# Altium footprint library SparkFun-Connectors.PCBLIB: 386 footprints (part 22 of 25)
Each footprint in its own frame and in the unit in brackets; x right, y up, seen from the top. Pads: shape width x height; smd on the part's side, far side on the other; paste and mask are expansions set on the pad; w line width, h text height; cw(c..) or ccw(c..) is an arc to the next point about the centre after c.
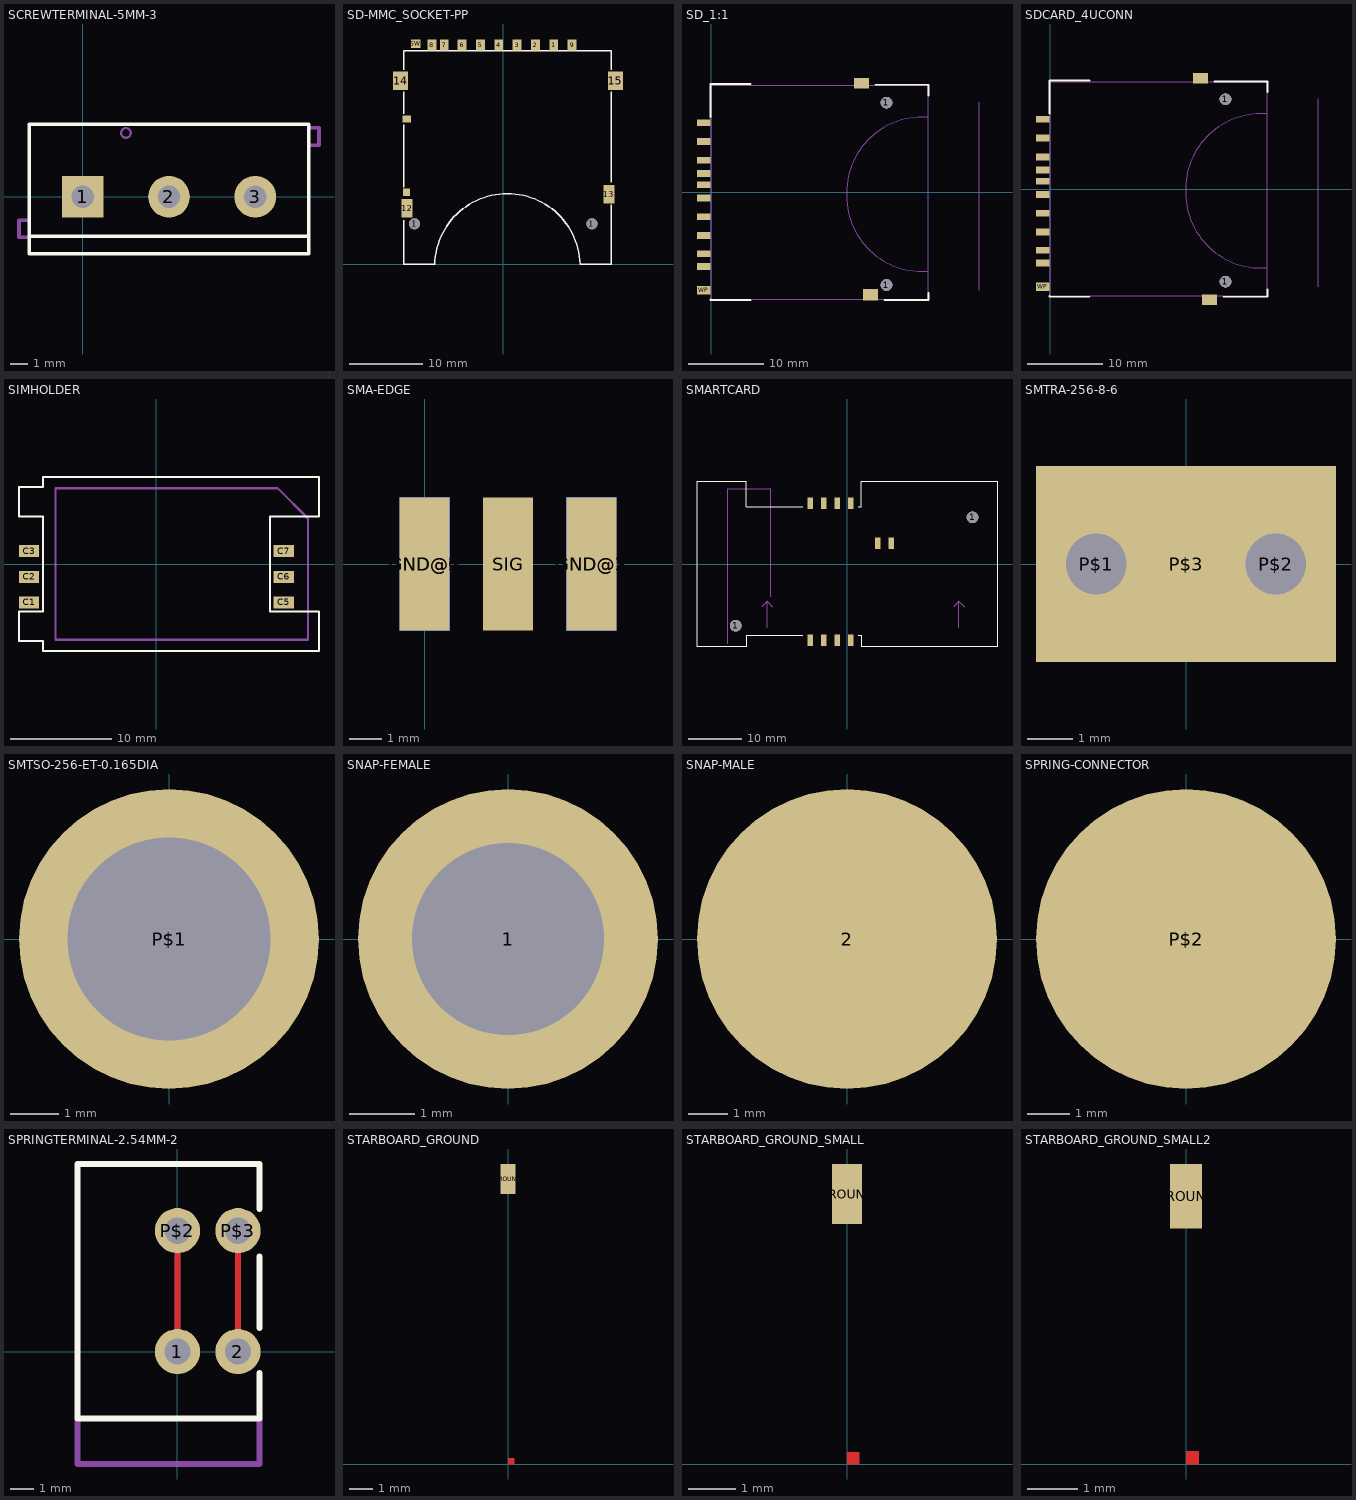
[diagram p21: the footprints below, top view; thin cyan lines are the x and y axes]

## SCREWTERMINAL-5MM-3 [mil]
pads (3):
  rect 95x95 hole 51.18: 1(0,0)
  round 95 hole 51.18: 2(196.85,0) 3(393.7,0)
Top Overlay:
  lines w8: -122.05,-90.55 -122.05,-129.92 515.75,-129.92 515.75,-90.55 ; -122.05,-90.55 -122.05,165.35 515.75,165.35 515.75,-90.55 ; -122.05,-90.55 515.75,-90.55
Mechanical 16:
  circle w5: c98.43,145.67 r11.13
  lines w8: -122.05,-92.52 -145.67,-92.52 -145.67,-53.15 -122.05,-53.15 ; 515.75,118.11 539.37,118.11 539.37,157.48 515.75,157.48

## SD-MMC_SOCKET-PP [mm]
pads (18):
  round 1.5 hole 1.5: 1(-12.1,5.5) 1(12.1,5.5)
  rect 1.2x1.5 smd: 1(6.88,29.85) 2(4.38,29.85) 3(1.88,29.85) 4(-0.62,29.85) 5(-3.12,29.85) 6(-5.62,29.85) 7(-8.04,29.85) 8(-9.728,29.87) 9(9.38,29.85)
  rect 1.5x2.5 smd: 12(-13.1,7.6) 13(14.402,9.525)
  rect 2x2.5 smd: 14(-14,25) 15(15.3,25)
  rect 1.15x1 smd: CD(-13.18,19.8)
  rect 1.3x1.1 smd: SW(-11.938,30.048)
  rect 1x1.05 smd: WP(-13.18,9.8)
Top Overlay:
  lines w0.203: -13.6,6 -13.6,0 -9.34,0 cw(c0.57,-0.297) 10.48,0 14.75,0 14.75,8.128 ; -13.6,10.5 -13.6,19 ; -13.6,20.5 -13.6,23.5 ; -13.6,26.5 -13.6,29.1 14.75,29.1 14.75,26.5 ; 14.75,11.176 14.75,23.5

## SD_1:1 [mm]
pads (15):
  rect 1.8x0.9 smd: 1(-1,6.77) 2(-1,4.27) 3(-1,2.52) 4(-1,-0.73) 5(-1,-3.23) 6(-1,-5.73) 7(-1,-8.15) 8(-1,-9.85) 9(-1,9.27) CD(-1,1.02)
  round 1.55 hole 1.55: 1(23.3,-12.32) 1(23.3,11.94)
  rect 2x1.4 smd: SH@1(20,14.496)
  rect 2x1.527 smd: SH@2(21.15,-13.589)
  rect 1.8x1.1 smd: WP(-1,-13)
Top Overlay:
  lines w0.254: -0.095,-14.238 -0.095,-14.327 5.239,-14.327 ; -0.095,10.019 -0.095,14.418 5.239,14.418 ; 21.849,14.318 28.888,14.318 28.9,12.9 ; 23.011,-14.327 28.888,-14.327 28.888,-13.349
Mechanical 16:
  lines w0.127: 35.6,-13 35.6,12 ; 28.8,-10.5 28.8,10 ; 28.8,-10.5 28.8,-14.25 0,-14.25 0,14.25 28.8,14.25 28.8,10 ; 28.8,-10.5 28,-10.5 cw(c28,-0.5) 18,-0.5 18,0 cw(c28,0) 28,10 28.8,10
  text "card lock position" at 34.9,-9.3 h1.97

## SDCARD_4UCONN [mm]
pads (15):
  rect 1.8x0.9 smd: 1(-1,6.77) 2(-1,4.27) 3(-1,2.52) 4(-1,-0.73) 5(-1,-3.23) 6(-1,-5.73) 7(-1,-8.15) 8(-1,-9.85) 9(-1,9.27) CD(-1,1.02)
  round 1.55 hole 1.55: 1(23.3,-12.32) 1(23.3,11.94)
  rect 2x1.4 smd: SH@1(20,14.75) SH@2(21.15,-14.75)
  rect 1.8x1.1 smd: WP(-1,-13)
Top Overlay:
  lines w0.254: -0.095,-14.238 -0.095,-14.327 5.239,-14.327 ; -0.095,10.019 -0.095,14.418 5.239,14.418 ; 21.849,14.318 28.888,14.318 28.9,12.9 ; 23.011,-14.327 28.888,-14.327 28.888,-13.349
Mechanical 16:
  lines w0.127: 35.6,-13 35.6,12 ; 28.8,-10.5 28.8,-8 28.8,10 ; 28.8,-10.5 28.8,-14.25 0,-14.25 0,14.25 28.8,14.25 28.8,10 ; 28.8,-10.5 28,-10.5 cw(c28,-0.5) 18,-0.5 18,0 cw(c28,0) 28,10 28.8,10
  text "card lock position" at 34.9,-9.3 h1.97

## SIMHOLDER [mm]
pads (6):
  rect 2x1.2 smd: C1(-12.61,-3.81) C2(-12.61,-1.27) C3(-12.61,1.27) C5(12.61,-3.81) C6(12.61,-1.27) C7(12.61,1.27)
Top Overlay:
  lines w0.203: -13.61,-7.625 -13.61,-4.7 -11.25,-4.7 -11.25,4.7 -13.61,4.7 -13.61,7.625 -11.25,7.625 -11.25,8.6 16.09,8.6 16.09,4.7 11.25,4.7 11.25,-4.7 16.09,-4.7 16.09,-8.6 -11.25,-8.6 -11.25,-7.625 -13.61,-7.625
Mechanical 16:
  lines w0.203: -10,-7.5 -10,7.5 12,7.5 15,4.5 15,-7.5 -10,-7.5

## SMA-EDGE [mil]
pads (5):
  rect 60x160 smd: GND@0(0,0) GND@1(200,0) SIG(100,0)
  rect 60x160 smd far side: GND@2(0,0) GND@3(200,0)

## SMARTCARD [mm]
pads (12):
  round 2.2 hole 2.2: 1(-20.89,-11.57) 1(23.56,8.75)
  rect 1x2.1 smd: C1(-6.92,11.4) C2(-4.38,11.4) C3(-1.84,11.4) C4(0.7,11.4) C5(-6.92,-14.3) C6(-4.38,-14.3) C7(-1.84,-14.3) C8(0.7,-14.3) P1(5.78,3.91) P2(8.32,3.91)
Top Overlay:
  lines w0.203: -8.29,-13.35 -18.89,-13.35 -18.89,-15.55 -28.15,-15.55 -28.15,15.55 -18.89,15.55 -18.89,10.7 -8.29,10.7 ; 2.11,-13.35 2.71,-13.35 2.71,-15.55 28.15,-15.55 28.15,15.55 2.71,15.55 2.71,10.7 2.11,10.7
Mechanical 16:
  lines w0.127: -22.5,-15 -22.5,14 -14.3,14 -14.3,-6.11
  lines w0.203: -16,-8 -15,-7 ; -15,-12 -15,-7 ; -14,-8 -15,-7 ; 20,-8 21,-7 ; 21,-12 21,-7 ; 22,-8 21,-7
  text "Card inserts this direction, up side down" at -14.478,-12.192 h1.57
  text "Card Mag Stripe" at -18.034,-6.604 h1.57

## SMTRA-256-8-6 [mil]
pads (3):
  round 79.5 hole 53: P$1(-78.5,0) P$2(78.5,0)
  rect 262x171 smd: P$3(0,0)
Top Paste:
  rectangle: -130,30 130,80
  rectangle: -40,20 40,30
  rectangle: -40,-40 40,-30
  rectangle: -130,-80 130,-30
  rectangle: -40,-30 40,-20
  rectangle: 110,20 130,30
  rectangle: 110,-30 130,-20
  rectangle: -130,-30 -110,-20
  rectangle: -130,20 -110,30

## SMTSO-256-ET-0.165DIA [mil]
pads (1):
  round 244 hole 165: P$1(0,0)
Top Paste:
  lines w40: -90,-40 ccw(c0,0) -40,-90 ; -90,40 cw(c0,0) -40,90 ; 40,-90 ccw(c0,0) 90,-40 ; 40,90 cw(c0,0) 90,40
Mechanical 14:
  text ".165 drill" at -100,50 h49.6
Mechanical 16:
  circle w5: c0,0 r40

## SNAP-FEMALE [mil]
pads (1):
  round 180 hole 115: 1(0,0)
Top Layer:
  region: 0,0 10,0 10,10 0,10
Top Paste:
  region: 0,0 10,0 10,10 0,10
Top Solder:
  region: 0,0 10,0 10,10 0,10
Mechanical 8 keep-out:
  region: 0,0 10,0 10,10 0,10

## SNAP-MALE [mil]
pads (1):
  rrect100% 300x300 smd: 2(0,0)

## SPRING-CONNECTOR [mil]
pads (1):
  rrect100% 280x280 smd: P$2(0,0)

## SPRINGTERMINAL-2.54MM-2 [mil]
pads (4):
  round 74.8 hole 43.31: 1(0,0) 2(100,0) P$2(0,200) P$3(100,200)
Top Layer:
  lines w10: 0,0 0,200 ; 100,0 100,200
Bottom Layer:
  lines w10: 0,0 0,200 ; 100,0 100,200
Top Overlay:
  lines w10: 135.43,-35.43 135.43,-110.24 -165.35,-110.24 -165.35,310.24 135.43,310.24 135.43,236.22 ; 135.43,39.37 135.43,157.48
Mechanical 16:
  lines w10: -165.35,-110.24 -165.35,-185.83 135.43,-185.83 135.43,-110.24

## STARBOARD_GROUND [mil]
pads (1):
  rect 25x50 smd: GROUND(0,475)
Top Layer:
  region: 0,0 10,0 10,10 0,10
Top Solder:
  region: 0,0 10,0 10,10 0,10

## STARBOARD_GROUND_SMALL [mil]
pads (1):
  rect 25x50 smd: GROUND(0,225)
Top Layer:
  region: 0,0 10,0 10,10 0,10
Top Solder:
  region: 0,0 10,0 10,10 0,10

## STARBOARD_GROUND_SMALL2 [mil]
pads (1):
  rect 25x50 smd: GROUND(0,207.5)
Top Layer:
  region: 0,0 10,0 10,10 0,10
Top Solder:
  region: 0,0 10,0 10,10 0,10